# EAGLE library part EXBA10E103J (library tkrworks)
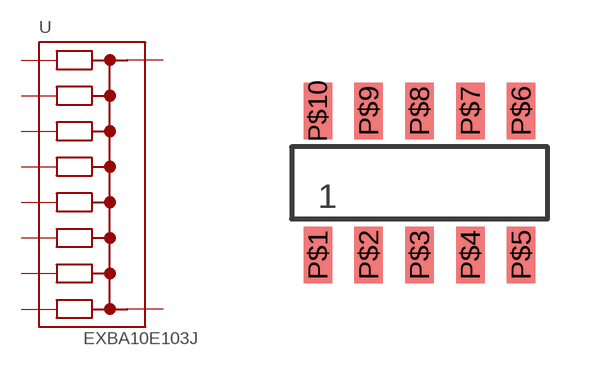
[diagram p0: symbol with the pads of EXBA10E103J; footprint EXBA10E103J]

Designator prefix -

## EXBA10E103J  [EXBA10E103J]
P$1  P$1
P$2  P$2
P$3  P$3
P$4  P$4
P$5  P$5
P$6  P$6
P$7  P$7
P$8  P$8
P$9  P$9
P$10  P$10

## Footprint EXBA10E103J (pad centres in mm)
smd 0.711 x 1.422: P$1 -2.54,-1.8; P$2 -1.27,-1.8; P$3 0,-1.8; P$4 1.27,-1.8; P$5 2.54,-1.8; P$6 2.54,1.8; P$7 1.27,1.8; P$8 0,1.8; P$9 -1.27,1.8; P$10 -2.54,1.8